# EAGLE library part LT3580 (library ACB)
Stepup 0,3-1,2A (swith 2A) 2,5-32Vin 1,215-42Vout 0,2-2,5Mhz, SS, accurate SHDN 1,3V 4,3$
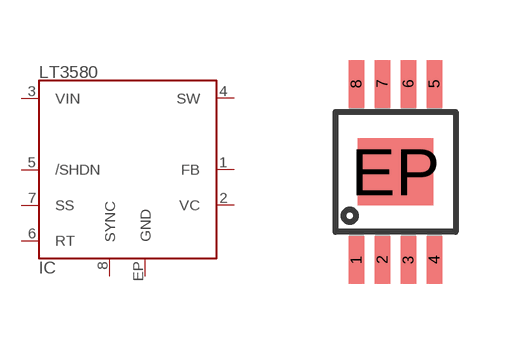
[diagram p10: symbol with the pads of MSOP8EXP; footprint MSOP8EXP]

Designator prefix IC

## LT3580EMS8E  [MSOP8EXP]
1  FB  in
2  VC  in
3  VIN  in
4  SW  out
5  /SHDN  in
6  RT  in
7  SS  in
8  SYNC  in
EP  GND  in

## Footprint MSOP8EXP (pad centres in mm)
smd 0.39 x 1.19: 1 -0.975,-2.2; 2 -0.325,-2.2; 3 0.325,-2.2; 4 0.975,-2.2; 5 0.975,2.2; 6 0.325,2.2; 7 -0.325,2.2; 8 -0.975,2.2
smd 1.88 x 1.68: EP 0,0